# Altium schematic symbol library 0314_Library_Day2.SchLib: 14 symbols
Pins are listed as number, name and electrical type; pins without a type are passive.

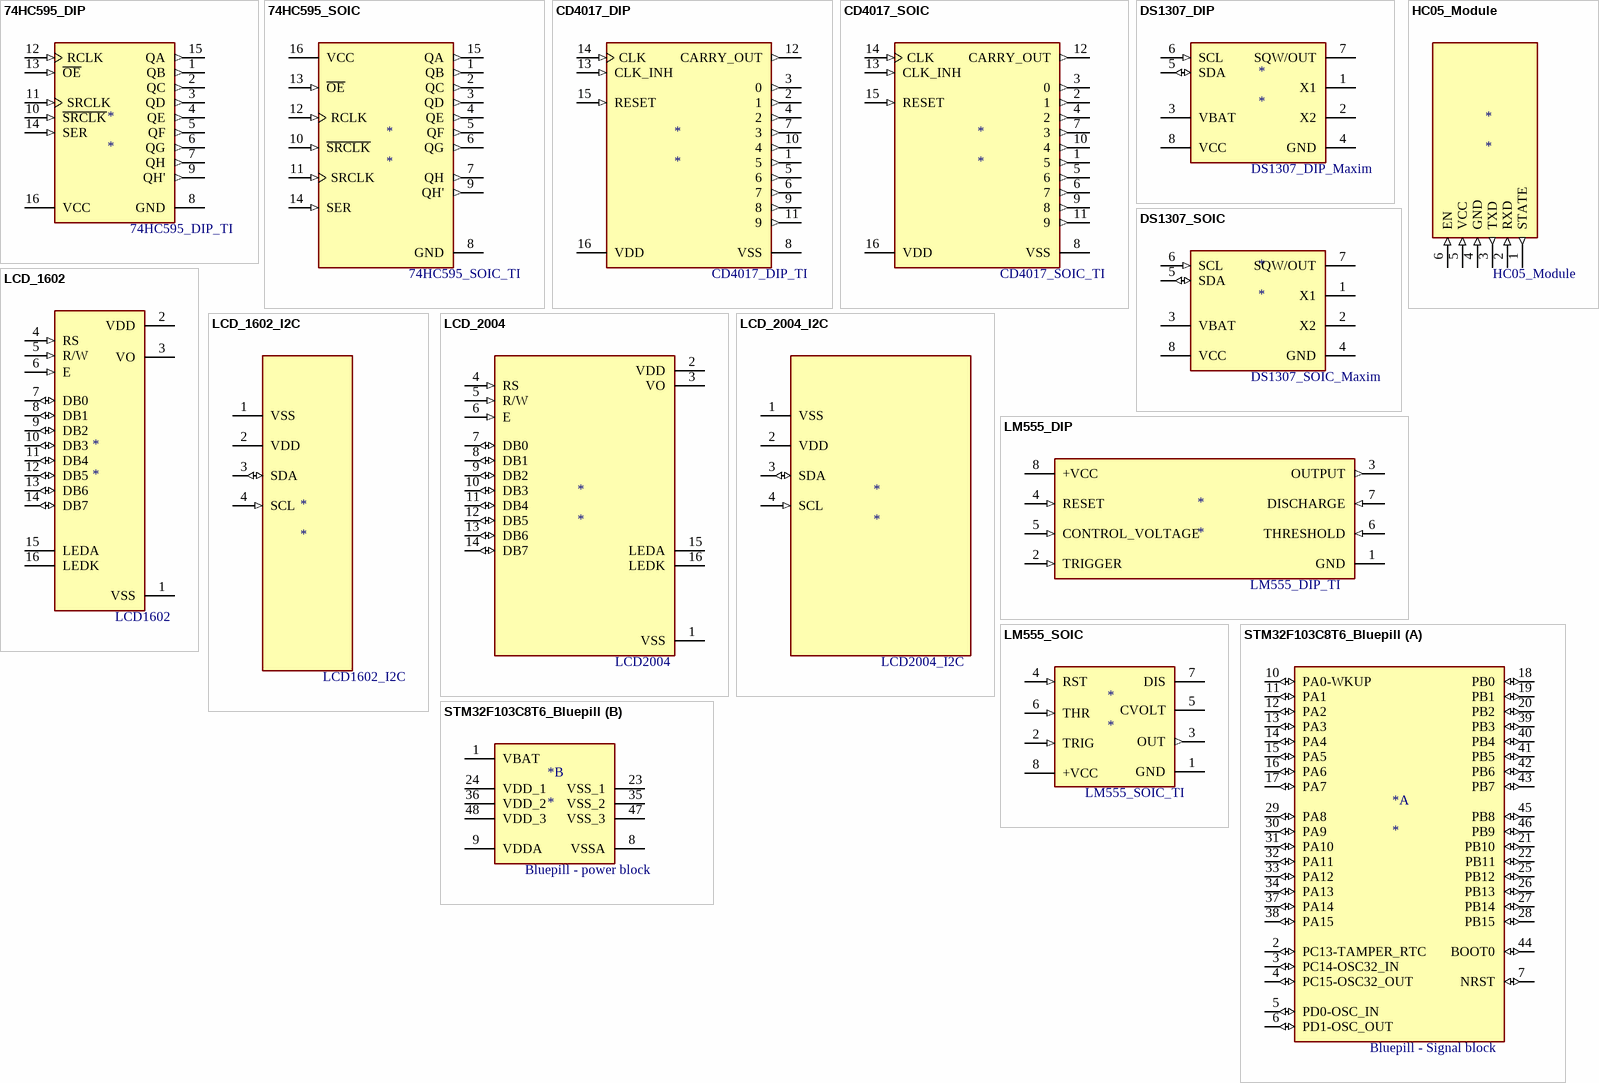
[diagram p0: symbols 74HC595_DIP to STM32F103C8T6_Bluepill]

## 74HC595_DIP
designator *
footprint 74HC595_DIP
pins: 1 QB (out), 2 QC (out), 3 QD (out), 4 QE (out), 5 QF (out), 6 QG (out), 7 QH (out), 8 GND (power), 9 QH' (out), 10 ~{SRCLK} (in), 11 SRCLK (in), 12 RCLK (in), 13 ~{OE} (in), 14 SER (in), 15 QA (out), 16 VCC (power)
text: 74HC595_DIP_TI

## 74HC595_SOIC
designator *
footprint 74HC595_SOIC
pins: 1 QB (out), 2 QC (out), 3 QD (out), 4 QE (out), 5 QF (out), 6 QG (out), 7 QH (out), 8 GND (power), 9 QH' (out), 10 ~{SRCLK} (in), 11 SRCLK (in), 12 RCLK (in), 13 ~{OE} (in), 14 SER (in), 15 QA (out), 16 VCC (power)
text: 74HC595_SOIC_TI

## CD4017_DIP
designator *
footprint CD4017_DIP
pins: 1 5 (out), 2 1 (out), 3 0 (out), 4 2 (out), 5 6 (out), 6 7 (out), 7 3 (out), 8 VSS (power), 9 8 (out), 10 4 (out), 11 9 (out), 12 CARRY_OUT (out), 13 CLK_INH (in), 14 CLK (in), 15 RESET (in), 16 VDD (power)
text: CD4017_DIP_TI

## CD4017_SOIC
designator *
footprint CD4017_SOIC
pins: 1 5 (out), 2 1 (out), 3 0 (out), 4 2 (out), 5 6 (out), 6 7 (out), 7 3 (out), 8 VSS (power), 9 8 (out), 10 4 (out), 11 9 (out), 12 CARRY_OUT (out), 13 CLK_INH (in), 14 CLK (in), 15 RESET (in), 16 VDD (power)
text: CD4017_SOIC_TI

## DS1307_DIP
designator *
footprint DS1307_DIP
pins: 1 X1, 2 X2, 3 VBAT, 4 GND (power), 5 SDA (io), 6 SCL (in), 7 SQW/OUT (oc), 8 VCC
text: DS1307_DIP_Maxim

## DS1307_SOIC
designator *
footprint DS1307_SOIC
pins: 1 X1, 2 X2, 3 VBAT, 4 GND (power), 5 SDA (io), 6 SCL (in), 7 SQW/OUT (oc), 8 VCC
text: DS1307_SOIC_Maxim

## HC05_Module
designator *
footprint HC05_MODULE
pins: 1 STATE (out), 2 RXD (in), 3 TXD (out), 4 GND (in), 5 VCC (in), 6 EN (in)

## LCD_1602
designator *
footprint LCD1602
pins: 1 VSS (power), 2 VDD (power), 3 VO, 4 RS (in), 5 R/W (in), 6 E (in), 7 DB0 (io), 8 DB1 (io), 9 DB2 (io), 10 DB3 (io), 11 DB4 (io), 12 DB5 (io), 13 DB6 (io), 14 DB7 (io), 15 LEDA, 16 LEDK
text: LCD1602

## LCD_1602_I2C
designator *
footprint LCD1602_I2C
pins: 1 VSS (power), 2 VDD (power), 3 SDA (io), 4 SCL (in)
text: LCD1602_I2C

## LCD_2004
designator *
footprint LCD2004
pins: 1 VSS (power), 2 VDD (power), 3 VO, 4 RS (in), 5 R/W (in), 6 E (in), 7 DB0 (io), 8 DB1 (io), 9 DB2 (io), 10 DB3 (io), 11 DB4 (io), 12 DB5 (io), 13 DB6 (io), 14 DB7 (io), 15 LEDA, 16 LEDK
text: LCD2004

## LCD_2004_I2C
designator *
footprint LCD2004_I2C
pins: 1 VSS (power), 2 VDD (power), 3 SDA (io), 4 SCL (in)
text: LCD2004_I2C

## LM555_DIP
designator *
footprint LM555_DIP
pins: 1 GND (power), 2 TRIGGER (in), 3 OUTPUT (out), 4 RESET (in), 5 CONTROL_VOLTAGE (in), 6 THRESHOLD (in), 7 DISCHARGE (in), 8 +VCC (power)
text: LM555_DIP_TI

## LM555_SOIC
designator *
footprint LM555_SOIC
pins: 1 GND (power), 2 TRIG (in), 3 OUT (out), 4 RST (in), 5 CVOLT, 6 THR (in), 7 DIS (oc), 8 +VCC (power)
text: LM555_SOIC_TI

## STM32F103C8T6_Bluepill
designator *
footprint STM32Bluepill
part A pins: 2 PC13-TAMPER_RTC (io), 3 PC14-OSC32_IN (io), 4 PC15-OSC32_OUT (io), 5 PD0-OSC_IN (io), 6 PD1-OSC_OUT (io), 7 NRST (io), 10 PA0-WKUP (io), 11 PA1 (io), 12 PA2 (io), 13 PA3 (io), 14 PA4 (io), 15 PA5 (io), 16 PA6 (io), 17 PA7 (io), 18 PB0 (io), 19 PB1 (io), 20 PB2 (io), 21 PB10 (io), 22 PB11 (io), 25 PB12 (io), 26 PB13 (io), 27 PB14 (io), 28 PB15 (io), 29 PA8 (io), 30 PA9 (io), 31 PA10 (io), 32 PA11 (io), 33 PA12 (io), 34 PA13 (io), 37 PA14 (io), 38 PA15 (io), 39 PB3 (io), 40 PB4 (io), 41 PB5 (io), 42 PB6 (io), 43 PB7 (io), 44 BOOT0 (io), 45 PB8 (io), 46 PB9 (io)
part B pins: 1 VBAT (power), 8 VSSA (power), 9 VDDA (power), 23 VSS_1 (power), 24 VDD_1 (power), 35 VSS_2 (power), 36 VDD_2 (power), 47 VSS_3 (power), 48 VDD_3 (power)
part A text: Bluepill - Signal block
part B text: Bluepill - power block